# EAGLE library part A3955 (library 0Robin)
Full-Bridge PWM Microstepping Motor Driver Drives one winding of a bipolar stepper motor in a microstepping mode. Handles current of +/- 1.5A at up to 50V. Temp range -20 to 85 C
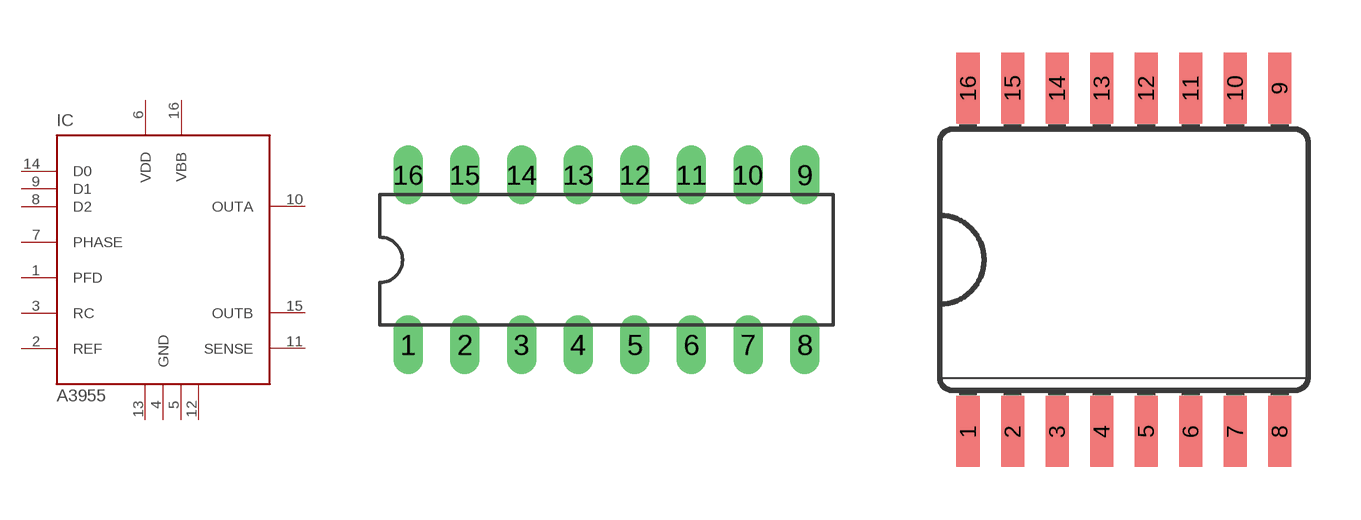
[diagram p7: symbol with the pads of DIL16; footprints DIL16, SO16L]

Designator prefix IC

## A3955SB  [DIL16]
1  PFD  in
2  REF  in
3  RC
4  GND  pwr
5  GND2  pwr
6  VDD  out
7  PHASE  in
8  D2  in
9  D1  in
10  OUTA  out
11  SENSE  in
12  GND3  pwr
13  GND4  pwr
14  D0  in
15  OUTB  out
16  VBB  pwr

## A3955SLB  [SO16L]
Pads as for DIL16

## Footprint DIL16 (pad centres in mm)
16-pin Dual Inline Package
drill 0.813 long: 1 -8.89,-3.81; 2 -6.35,-3.81; 3 -3.81,-3.81; 4 -1.27,-3.81; 5 1.27,-3.81; 6 3.81,-3.81; 7 6.35,-3.81; 8 8.89,-3.81; 9 8.89,3.81; 10 6.35,3.81; 11 3.81,3.81; 12 1.27,3.81; 13 -1.27,3.81; 14 -3.81,3.81; 15 -6.35,3.81; 16 -8.89,3.81

## Footprint SO16L (pad centres in mm)
16-pin Small Outline Package
smd 0.66 x 2.032: 1 -4.445,-4.902; 2 -3.175,-4.902; 3 -1.905,-4.902; 4 -0.635,-4.902; 5 0.635,-4.902; 6 1.905,-4.902; 7 3.175,-4.902; 8 4.445,-4.902; 9 4.445,4.902; 10 3.175,4.902; 11 1.905,4.902; 12 0.635,4.902; 13 -0.635,4.902; 14 -1.905,4.902; 15 -3.175,4.902; 16 -4.445,4.902